# Altium footprint library PCB - CAPACITOR - FILM - CAP FILM 1206.PCBLIB: 1 footprints
Each footprint in its own frame and in the unit in brackets; x right, y up, seen from the top. Pads: shape width x height; smd on the part's side, far side on the other; paste and mask are expansions set on the pad; w line width, h text height; cw(c..) or ccw(c..) is an arc to the next point about the centre after c.
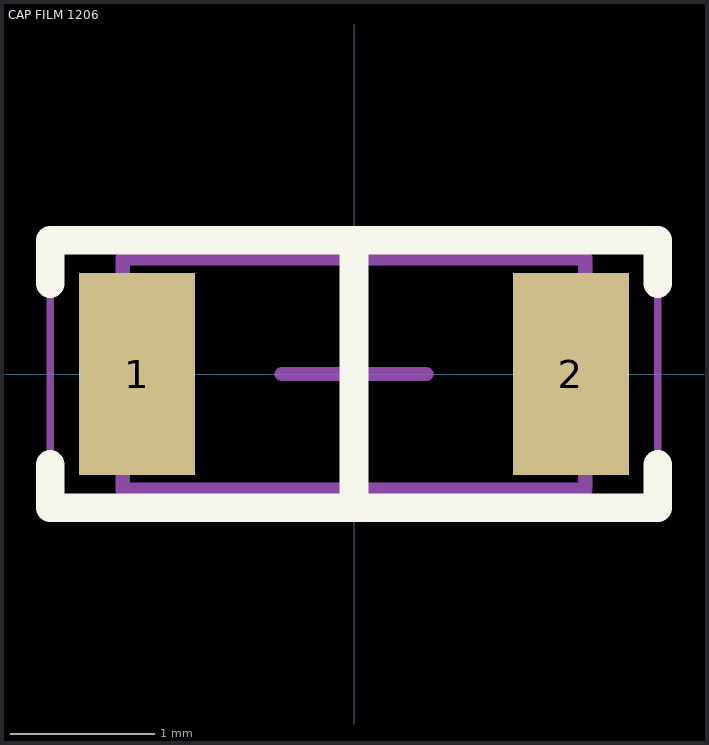
[diagram p0: the footprint, top view; thin cyan lines are the x and y axes]

## CAP FILM 1206 [mm] "H1, Film Capacitor PPS, 2-Leads, Body 3.20x1.60mm, IPC Medium Density"
height 0.8
pads (2):
  rect 0.8x1.4 smd: 1(-1.5,0) 2(1.5,0)
Top Overlay:
  lines w0.2: -2.1,-0.625 -2.1,-0.925 2.1,-0.925 2.1,-0.625 ; -2.1,0.625 -2.1,0.925 2.1,0.925 2.1,0.625 ; 0,-0.925 0,0.9
Mechanical 13:
  lines w0.1: -1.6,-0.8 -1.6,0.8 1.6,0.8 1.6,-0.8 -1.6,-0.8
Mechanical 15:
  lines w0.05: -2.1,-1 2.1,-1 2.1,1 -2.1,1 -2.1,-1
  lines w0.1: -0.5,0 0.5,0 ; 0,-0.5 0,0.5
3D body "CAP FILM - 1206.step": height 1, standoff 0, extent -1.6,-0.8 1.6,0.8